# EAGLE library part BQ25703A (library borkedlabs-powerics)
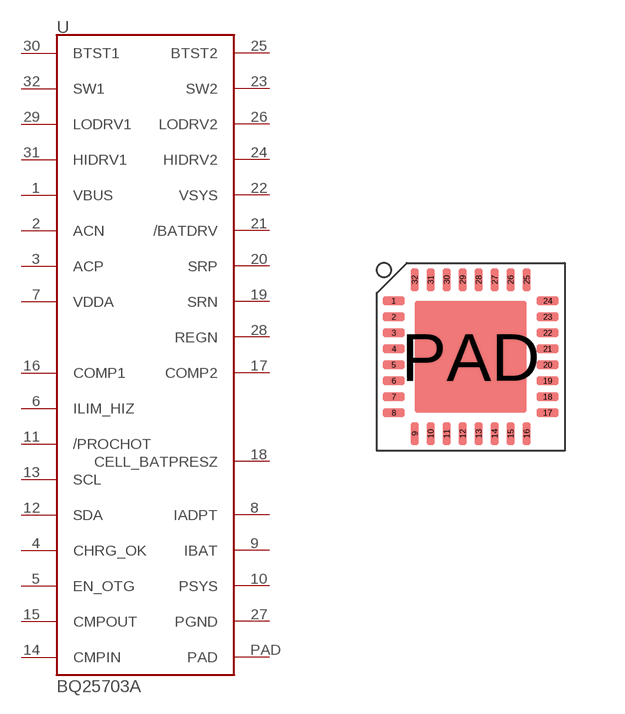
[diagram p21: symbol with the pads of QFN32-4X4-TI-RSN; footprint QFN32-4X4-TI-RSN]

Designator prefix U

## BQ25703A (MPN: bq25703ARSNR; PACKAGE: QFN32)  [QFN32-4X4-TI-RSN]
1  VBUS
2  ACN
3  ACP
4  CHRG_OK
5  EN_OTG
6  ILIM_HIZ
7  VDDA
8  IADPT
9  IBAT
10  PSYS
11  /PROCHOT
12  SDA
13  SCL
14  CMPIN
15  CMPOUT
16  COMP1
17  COMP2
18  CELL_BATPRESZ
19  SRN
20  SRP
21  /BATDRV
22  VSYS
23  SW2
24  HIDRV2
25  BTST2
26  LODRV2
27  PGND
28  REGN
29  LODRV1
30  BTST1
31  HIDRV1
32  SW1
PAD  PAD

## Footprint QFN32-4X4-TI-RSN (pad centres in mm)
smd 0.55 x 0.2: 1 -1.925,1.4; 2 -1.925,1; 3 -1.925,0.6; 4 -1.925,0.2; 5 -1.925,-0.2; 6 -1.925,-0.6; 7 -1.925,-1; 8 -1.925,-1.4; 17 1.925,-1.4; 18 1.925,-1; 19 1.925,-0.6; 20 1.925,-0.2; 21 1.925,0.2; 22 1.925,0.6; 23 1.925,1; 24 1.925,1.4
smd 0.2 x 0.55: 9 -1.4,-1.925; 10 -1,-1.925; 11 -0.6,-1.925; 12 -0.2,-1.925; 13 0.2,-1.925; 14 0.6,-1.925; 15 1,-1.925; 16 1.4,-1.925; 25 1.4,1.925; 26 1,1.925; 27 0.6,1.925; 28 0.2,1.925; 29 -0.2,1.925; 30 -0.6,1.925; 31 -1,1.925; 32 -1.4,1.925
smd 2.8 x 2.8: PAD 0,0